# Altium schematic symbol library Optocouplers.SchLib: 2 symbols
Pins are listed as number, name and electrical type; pins without a type are passive.

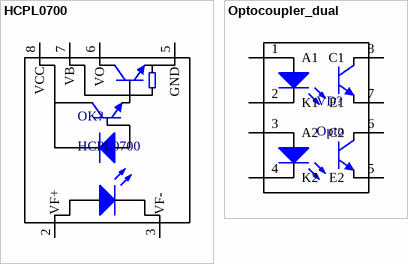
[diagram p0: symbols HCPL0700 to Optocoupler_dual]

## HCPL0700
designator OK?
Low Input Current High Gain Split Darlington Optocouplers; Manufacturer: ON Semiconductor; Part Number: HCPL0700; Price 1: 1.67; Price 100: 0.864; Price 1000: 0.667
footprint SOP8_opto (ELD20X, ELD21X)
pins: 2 VF+, 3 VF-, 5 GND, 6 VO, 7 VB, 8 VCC

## Optocoupler_dual
designator VD?, comment Opto
Manufacturer: *; Part Number: *; Price 1: *; Price 100: *; Price 1000: *
footprint SOP8_opto (ELD20X, ELD21X)
pins: 1 A1, 2 K1, 3 A2, 4 K2, 5 E2, 6 C2, 7 E1, 8 C1